# EAGLE library part PCF8575 (library Hornet UFC 020a)
PCF8575 Remote16-BIT I2C AND SMBus I/O Expander with Interrupt Output
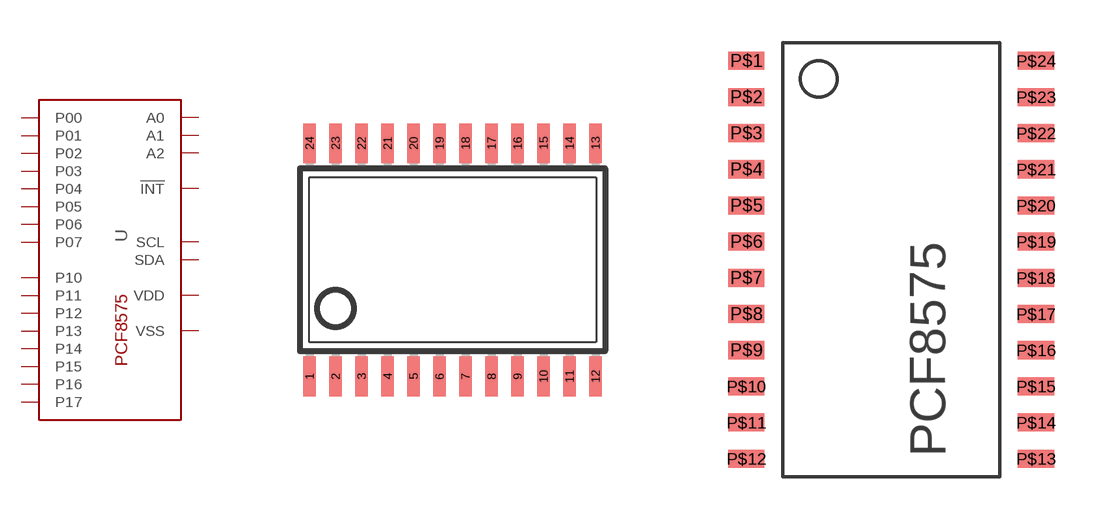
[diagram p2: symbol with the pads of TSSOP24; footprints TSSOP24, SOP24]

Designator prefix -

## PCF8575PWR  [TSSOP24]
1  !INT  oc
2  A1  in
3  A2  in
4  P00
5  P01
6  P02
7  P03
8  P04
9  P05
10  P06
11  P07
12  VSS  pwr
13  P10
14  P11
15  P12
16  P13
17  P14
18  P15
19  P16
20  P17
21  A0  in
22  SCL  in
23  SDA
24  VDD  pwr

## PCF8575SOP24  [SOP24]
P$1  !INT  oc
P$2  A1  in
P$3  A2  in
P$4  P00
P$5  P01
P$6  P02
P$7  P03
P$8  P04
P$9  P05
P$10  P06
P$11  P07
P$12  VSS  pwr
P$13  P10
P$14  P11
P$15  P12
P$16  P13
P$17  P14
P$18  P15
P$19  P16
P$20  P17
P$21  A0  in
P$22  SCL  in
P$23  SDA
P$24  VDD  pwr

## Footprint TSSOP24 (pad centres in mm)
Thin Shrink Small Outline Plastic 24 MAX3223-MAX3243.pdf
smd 0.305 x 0.991: 1 -3.575,-2.918; 2 -2.925,-2.918; 3 -2.275,-2.918; 4 -1.625,-2.918; 5 -0.975,-2.918; 6 -0.325,-2.918; 7 0.325,-2.918; 8 0.975,-2.918; 9 1.625,-2.918; 10 2.275,-2.918; 11 2.925,-2.918; 12 3.575,-2.918; 13 3.575,2.918; 14 2.925,2.918; 15 2.275,2.918; 16 1.625,2.918; 17 0.975,2.918; 18 0.325,2.918; 19 -0.325,2.918; 20 -0.975,2.918; 21 -1.625,2.918; 22 -2.275,2.918; 23 -2.925,2.918; 24 -3.575,2.918

## Footprint SOP24 (pad centres in mm)
smd 1.27 x 0.635: P$1 -1.27,14.605; P$2 -1.27,13.335; P$3 -1.27,12.065; P$4 -1.27,10.795; P$5 -1.27,9.525; P$6 -1.27,8.255; P$7 -1.27,6.985; P$8 -1.27,5.715; P$9 -1.27,4.445; P$10 -1.27,3.175; P$11 -1.27,1.905; P$12 -1.27,0.635; P$13 8.89,0.635; P$14 8.89,1.905; P$15 8.89,3.175; P$16 8.89,4.445; P$17 8.89,5.715; P$18 8.89,6.985; P$19 8.89,8.255; P$20 8.89,9.525; P$21 8.89,10.795; P$22 8.89,12.065; P$23 8.89,13.335; P$24 8.89,14.605